# Altium schematic symbol library MCP3204-CI_SL.Schlib: 1 symbol
Pins are listed as number, name and electrical type; pins without a type are passive.

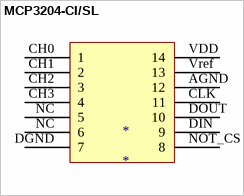
[diagram p0: symbol MCP3204-CI/SL]

## MCP3204-CI/SL
designator *
pins: AGND 12, CH0 1, CH1 2, CH2 3, CH3 4, CLK 11, DGND 7, DIN 9, DOUT 10, NC 5, NC 6, NOT_CS 8, VDD 14, Vref 13